# Altium integrated library Altium_WP-PLUG (rev22a).IntLib: 3 symbols
Pins are listed as number, name and electrical type; pins without a type are passive.

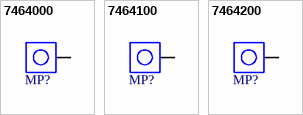
[diagram p0: symbols 7464000 to 7464200]

## 7464000
designator MP?  (value not drawn)
WP-PLUG REDCUBE Direct Plug Terminal, L14.3W14.3H18.1mm, Red, 120A; Manufacturer: Wurth Elektronik; Contact Resistance: 1mΩ; Insulator Material: PBT; ComponentLink1Description: Website Link; ComponentLink1URL: https://www.we-online.com/redexpert/article/7464000?ad; ComponentLink2Description: Datasheet Link; ComponentLink2URL: https://www.we-online.com/redexpert/spec/7464000?ad; Manufacturer Part Number: 7464000; Category: REDCUBE PLUG; Match Code: WP-PLUG; Mount: Press Fit; Operating Temperature Max: 125°C; Operating Temperature Min: -45°C; Packaging: Bulk; Length: 14.3mm; Width: 14.3mm; Height: 18.1mm; Contact Material: Copper Alloy; Contact Plating: Tin; Color: Red; Number of Pins: 12; Rated Current: 120A
footprint WP-PLUG_L14.3W14.3H18.1_for chemical surfaces
footprint WP-PLUG_L14.3W14.3H18.1_for HAL
pins: 1

## 7464100
designator MP?  (value not drawn)
WP-PLUG REDCUBE Direct Plug Terminal, L14.3W14.3H18.1mm, Black, 120A; Manufacturer: Wurth Elektronik; Contact Resistance: 1mΩ; Insulator Material: PBT; ComponentLink1Description: Website Link; ComponentLink1URL: https://www.we-online.com/redexpert/article/7464100?ad; ComponentLink2Description: Datasheet Link; ComponentLink2URL: https://www.we-online.com/redexpert/spec/7464100?ad; Manufacturer Part Number: 7464100; Category: REDCUBE PLUG; Match Code: WP-PLUG; Mount: Press Fit; Operating Temperature Max: 125°C; Operating Temperature Min: -45°C; Packaging: Bulk; Length: 14.3mm; Width: 14.3mm; Height: 18.1mm; Contact Material: Copper Alloy; Contact Plating: Tin; Color: Black; Number of Pins: 12; Rated Current: 120A
footprint WP-PLUG_L14.3W14.3H18.1_for chemical surfaces
footprint WP-PLUG_L14.3W14.3H18.1_for HAL
pins: 1

## 7464200
designator MP?  (value not drawn)
WP-PLUG REDCUBE Direct Plug Terminal, L14.3W14.3H18.1mm, Blue, 120A; Manufacturer: Wurth Elektronik; Contact Resistance: 1mΩ; Insulator Material: PBT; ComponentLink1Description: Website Link; ComponentLink1URL: https://www.we-online.com/redexpert/article/7464200?ad; ComponentLink2Description: Datasheet Link; ComponentLink2URL: https://www.we-online.com/redexpert/spec/7464200?ad; Manufacturer Part Number: 7464200; Category: REDCUBE PLUG; Match Code: WP-PLUG; Mount: Press Fit; Operating Temperature Max: 125°C; Operating Temperature Min: -45°C; Packaging: Bulk; Length: 14.3mm; Width: 14.3mm; Height: 18.1mm; Contact Material: Copper Alloy; Contact Plating: Tin; Color: Blue; Number of Pins: 12; Rated Current: 120A
footprint WP-PLUG_L14.3W14.3H18.1_for chemical surfaces
footprint WP-PLUG_L14.3W14.3H18.1_for HAL
pins: 1